# Altium footprint library UUR1E101MCL6GS.PcbLib: 1 footprints
Each footprint in its own frame and in the unit in brackets; x right, y up, seen from the top. Pads: shape width x height; smd on the part's side, far side on the other; paste and mask are expansions set on the pad; w line width, h text height; cw(c..) or ccw(c..) is an arc to the next point about the centre after c.
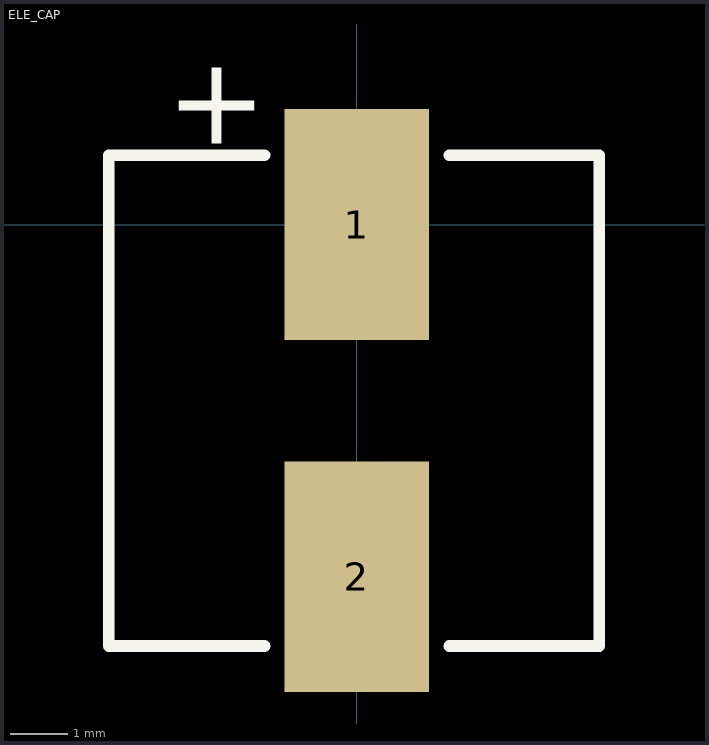
[diagram p0: the footprint, top view; thin cyan lines are the x and y axes]

## ELE_CAP [mm]
pads (2):
  rect 2.5x4 smd: 1(0,0) 2(0,-6.1)
Top Overlay:
  lines w0.203: -1.6,-7.3 -4.3,-7.3 -4.3,1.2 -1.6,1.2 ; 1.6,-7.3 4.2,-7.3 4.2,1.2 1.6,1.2
  text "+" at -3.3,1.4 h1.52